# Altium footprint library KF7_62_3P.PcbLib: 1 footprints
Each footprint in its own frame and in the unit in brackets; x right, y up, seen from the top. Pads: shape width x height; smd on the part's side, far side on the other; paste and mask are expansions set on the pad; w line width, h text height; cw(c..) or ccw(c..) is an arc to the next point about the centre after c.
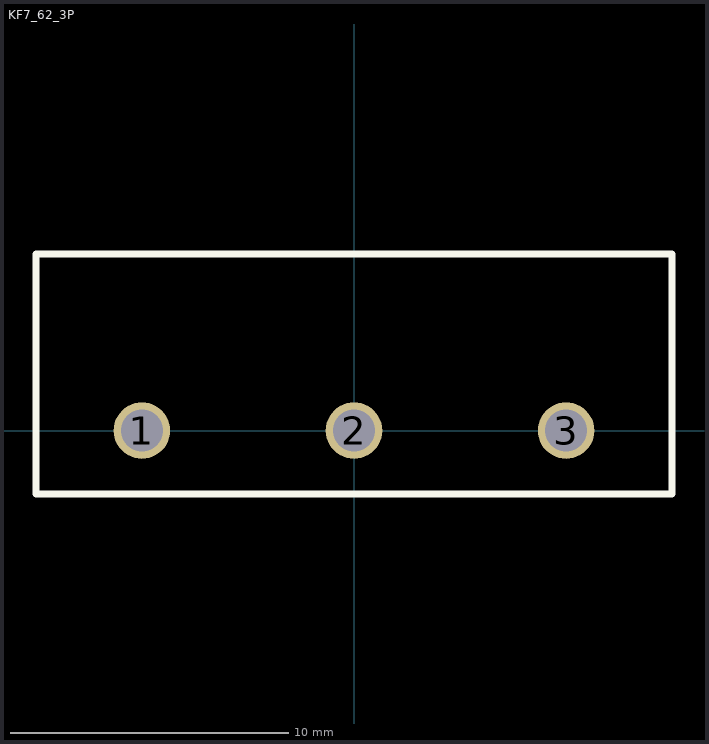
[diagram p0: the footprint, top view; thin cyan lines are the x and y axes]

## KF7_62_3P [mil] "3PIN接线端子"
pads (3):
  round 80 hole 59.06: 1(-300,0) 2(0,0) 3(300,0)
Top Overlay:
  lines w10: -450,-90 450,-90 450,0 450,250 -450,250 -450,0 -450,-90